# EAGLE library part BME280 (library BME280)
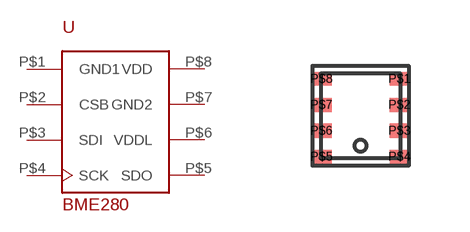
[diagram p0: symbol with the pads of LGA-8; footprint LGA-8]

Designator prefix -

## BME280LGA-8  [LGA-8]
P$1  GND1  pwr
P$2  CSB  in
P$3  SDI  in
P$4  SCK  in
P$5  SDO  out
P$6  VDDL  pwr
P$7  GND2  pwr
P$8  VDD  pwr

## Footprint LGA-8 (pad centres in mm)
smd 0.5 x 0.35: P$1 0.975,0.975; P$2 0.975,0.325; P$3 0.975,-0.325; P$4 0.975,-0.975; P$5 -0.975,-0.975; P$6 -0.975,-0.325; P$7 -0.975,0.325; P$8 -0.975,0.975